# EAGLE library part NL27WZ08 (library lightmeter)
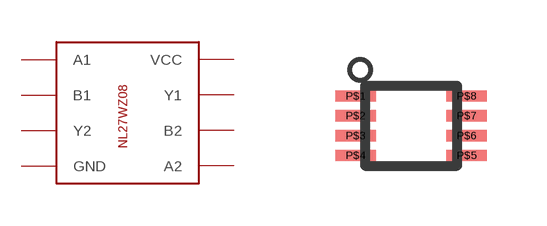
[diagram p10: symbol with the pads of US8; footprint US8]

Designator prefix -

## NL27WZ08  [US8]
P$1  A1
P$2  B1
P$3  Y2
P$4  GND
P$5  A2
P$6  B2
P$7  Y1
P$8  VCC

## Footprint US8 (pad centres in mm)
smd 1.016 x 0.279: P$1 -1.389,0.744; P$2 -1.389,0.25; P$3 -1.389,-0.25; P$4 -1.389,-0.744; P$5 1.389,-0.744; P$6 1.389,-0.25; P$7 1.389,0.25; P$8 1.389,0.744